# EAGLE library part IC_FT230X (library akita)
FTDI's FT230X
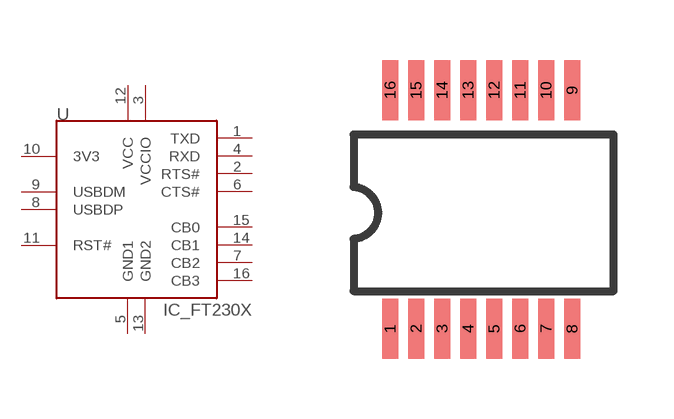
[diagram p56: symbol with the pads of SSOP16; footprint SSOP16]

Designator prefix U

## IC_FT230XXS  [SSOP16]
1  TXD
2  RTS#
3  VCCIO
4  RXD
5  GND1
6  CTS#
7  CB2
8  USBDP
9  USBDM
10  3V3
11  RST#
12  VCC
13  GND2
14  CB1
15  CB0
16  CB3

## Footprint SSOP16 (pad centres in mm)
smd 0.4 x 1.5: 1 -2.335,-2.893; 2 -1.685,-2.893; 3 -1.035,-2.893; 4 -0.385,-2.893; 5 0.265,-2.893; 6 0.915,-2.893; 7 1.565,-2.893; 8 2.215,-2.893; 9 2.215,3.072; 10 1.565,3.072; 11 0.915,3.072; 12 0.265,3.072; 13 -0.385,3.072; 14 -1.035,3.072; 15 -1.685,3.072; 16 -2.335,3.072